# Altium footprint library Amphenol-ICC.PcbLib: 2 footprints
Each footprint in its own frame and in the unit in brackets; x right, y up, seen from the top. Pads: shape width x height; smd on the part's side, far side on the other; paste and mask are expansions set on the pad; w line width, h text height; cw(c..) or ccw(c..) is an arc to the next point about the centre after c.
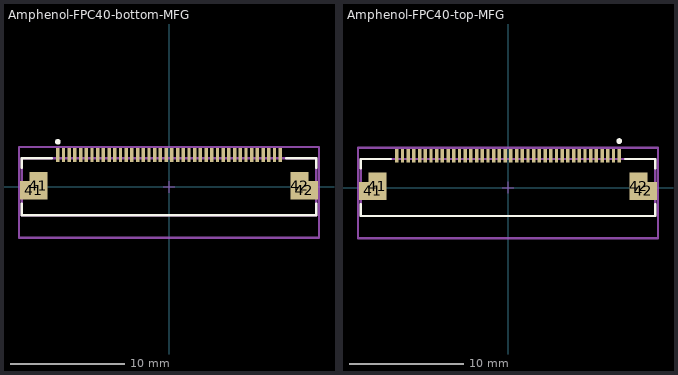
[diagram p0: the footprints below, top view; thin cyan lines are the x and y axes]

## Amphenol-FPC40-bottom-MFG [mm]
pads (44):
  rect 0.3x1.2 smd paste+0 mask+0: 1(-9.75,2.8) 2(-9.25,2.8) 3(-8.75,2.8) 4(-8.25,2.8) 5(-7.75,2.8) 6(-7.25,2.8) 7(-6.75,2.8) 8(-6.25,2.8) 9(-5.75,2.8) 10(-5.25,2.8) 11(-4.75,2.8) 12(-4.25,2.8) 13(-3.75,2.8) 14(-3.25,2.8) 15(-2.75,2.8) 16(-2.25,2.8) 17(-1.75,2.8) 18(-1.25,2.8) 19(-0.75,2.8) 20(-0.25,2.8) 21(0.25,2.8) 22(0.75,2.8) 23(1.25,2.8) 24(1.75,2.8) 25(2.25,2.8) 26(2.75,2.8) 27(3.25,2.8) 28(3.75,2.8) 29(4.25,2.8) 30(4.75,2.8) 31(5.25,2.8) 32(5.75,2.8) 33(6.25,2.8) 34(6.75,2.8) 35(7.25,2.8) 36(7.75,2.8) 37(8.25,2.8) 38(8.75,2.8) 39(9.25,2.8) 40(9.75,2.8)
  rect 2.4x1.6 smd: 41(-11.85,-0.3) 42(11.851,-0.3)
  rect 1.6x2.4 smd: 41(-11.45,0.1) 42(11.451,0.1)
Top Overlay:
  circle w0.25: c-9.75,3.95 r0.125
  lines w0.2: -12.9,-1.475 -12.9,-2.5 12.9,-2.5 12.9,-1.475 ; -12.9,1.675 -12.9,2.5 -10.275,2.5 ; 10.275,2.5 12.9,2.5 12.9,1.675
Mechanical 10:
  lines w0.2: -13.15,-4.45 13.15,-4.45 13.15,3.5 -13.15,3.5 -13.15,-4.45
  text ".Designator" at 0,-0.476 h1
Mechanical 12:
  lines w0.2: -12.9,-2.5 12.9,-2.5 12.9,2.5 -12.9,2.5 -12.9,-2.5
Mechanical 15:
  lines w0.1: -0.5,0 0.5,0 ; 0,-0.5 0,0.5
  lines w0.2: -13.15,-4.45 13.15,-4.45 13.15,3.5 -13.15,3.5 -13.15,-4.45
3D body "Conn_Amphenol_ICC_-_FCI_62684-402100ALF_eec.STEP": height 0.25, standoff 0, extent -13.15,-4.45 13.15,3.5

## Amphenol-FPC40-top-MFG [mm]
pads (44):
  rect 0.3x1.2 smd paste+0 mask+0: 1(9.75,2.8) 2(9.25,2.8) 3(8.75,2.8) 4(8.25,2.8) 5(7.75,2.8) 6(7.25,2.8) 7(6.75,2.8) 8(6.25,2.8) 9(5.75,2.8) 10(5.25,2.8) 11(4.75,2.8) 12(4.25,2.8) 13(3.75,2.8) 14(3.25,2.8) 15(2.75,2.8) 16(2.25,2.8) 17(1.75,2.8) 18(1.25,2.8) 19(0.75,2.8) 20(0.25,2.8) 21(-0.25,2.8) 22(-0.75,2.8) 23(-1.25,2.8) 24(-1.75,2.8) 25(-2.25,2.8) 26(-2.75,2.8) 27(-3.25,2.8) 28(-3.75,2.8) 29(-4.25,2.8) 30(-4.75,2.8) 31(-5.25,2.8) 32(-5.75,2.8) 33(-6.25,2.8) 34(-6.75,2.8) 35(-7.25,2.8) 36(-7.75,2.8) 37(-8.25,2.8) 38(-8.75,2.8) 39(-9.25,2.8) 40(-9.75,2.8)
  rect 2.4x1.6 smd: 41(-11.85,-0.3) 42(11.851,-0.3)
  rect 1.6x2.4 smd: 41(-11.45,0.1) 42(11.451,0.1)
Top Overlay:
  lines w0.2: -12.9,-1.475 -12.9,-2.5 12.9,-2.5 12.9,-1.475 ; -12.9,1.675 -12.9,2.5 -10.275,2.5 ; 10.275,2.5 12.9,2.5 12.9,1.675
  lines w0.25: 9.875,4.073 cw(c9.75,4.073) 9.875,4.075
Mechanical 10:
  lines w0.2: -13.15,-4.45 -13.15,3.5 13.15,3.5 13.15,-4.45 -13.15,-4.45
  text ".Designator" at 0,-0.476 h1
Mechanical 12:
  lines w0.2: -12.9,-2.5 -12.9,2.5 12.9,2.5 12.9,-2.5 -12.9,-2.5
Mechanical 15:
  lines w0.1: -0.5,0 0.5,0 ; 0,-0.5 0,0.5
  lines w0.2: -13.15,-4.45 -13.15,3.5 13.15,3.5 13.15,-4.45 -13.15,-4.45
3D body "Conn_Amphenol_ICC_-_FCI_62684-402100ALF_eec.STEP": height 0.25, standoff 0, extent -13.15,-4.45 13.15,3.5